# Altium schematic symbol library OPA462IDDAR.SchLib: 1 symbol
Pins are listed as number, name and electrical type; pins without a type are passive.

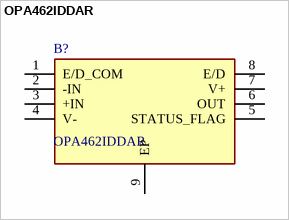
[diagram p0: symbol OPA462IDDAR]

## OPA462IDDAR
designator B?
High-Voltage, High-Current (30-mA) Operational Amplifier; Manufacturer_Name: Texas Instruments; Geometry.Height: 1.7mm; Mouser Part Number: 595-OPA462IDDAR; Mouser Price/Stock: https://www.mouser.co.uk/ProductDetail/Texas-Instruments/OPA462IDDAR?qs=9r4v7xj2Lnl6T1pF18R4kw%3D%3D; Manufacturer_Part_Number: OPA462IDDAR; Datasheet Link: https://www.ti.com/lit/gpn/OPA462
footprint SOIC127P600X170-9N
pins: 1 E/D_COM, 2 -IN, 3 +IN, 4 V-, 5 STATUS_FLAG, 6 OUT, 7 V+, 8 E/D, 9 EP